# Altium integrated library B0505S-1W.IntLib: 1 symbol
Pins are listed as number, name and electrical type; pins without a type are passive.

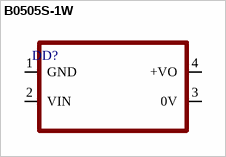
[diagram p0: symbol B0505S-1W]

## B0505S-1W
designator DD?
footprint PLS-4-2.54mm
pins: 1 GND, 2 VIN, 3 0V, 4 +VO